# Altium schematic symbol library HDR-F-2.54_1x3.SchLib: 1 symbol
Pins are listed as number, name and electrical type; pins without a type are passive.

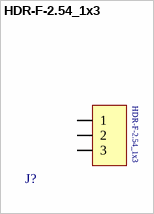
[diagram p0: symbol HDR-F-2.54_1x3]

## HDR-F-2.54_1x3
designator J?
3-pin in-line pin connector, 2.54 mm pitch, Male typ
pins: 1, 2, 3